# EAGLE library part PL133-37 (library TinyNES_Library)
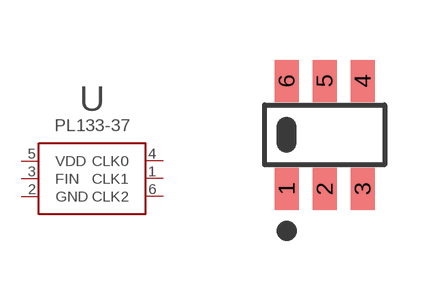
[diagram p11: symbol with the pads of SOT-23-6; footprint SOT-23-6]

Designator prefix -

## PL133-37  [SOT-23-6]
1  CLK1
2  GND
3  FIN
4  CLK0
5  VDD
6  CLK2

## Footprint SOT-23-6 (pad centres in mm)
smd 0.6 x 1.05: 1 -0.95,-1.35; 2 0,-1.35; 3 0.95,-1.35; 4 0.95,1.35; 5 0,1.35; 6 -0.95,1.35